# Altium schematic symbol library UOMP_microcontrollers.SchLib: 5 symbols
Pins are listed as number, name and electrical type; pins without a type are passive.

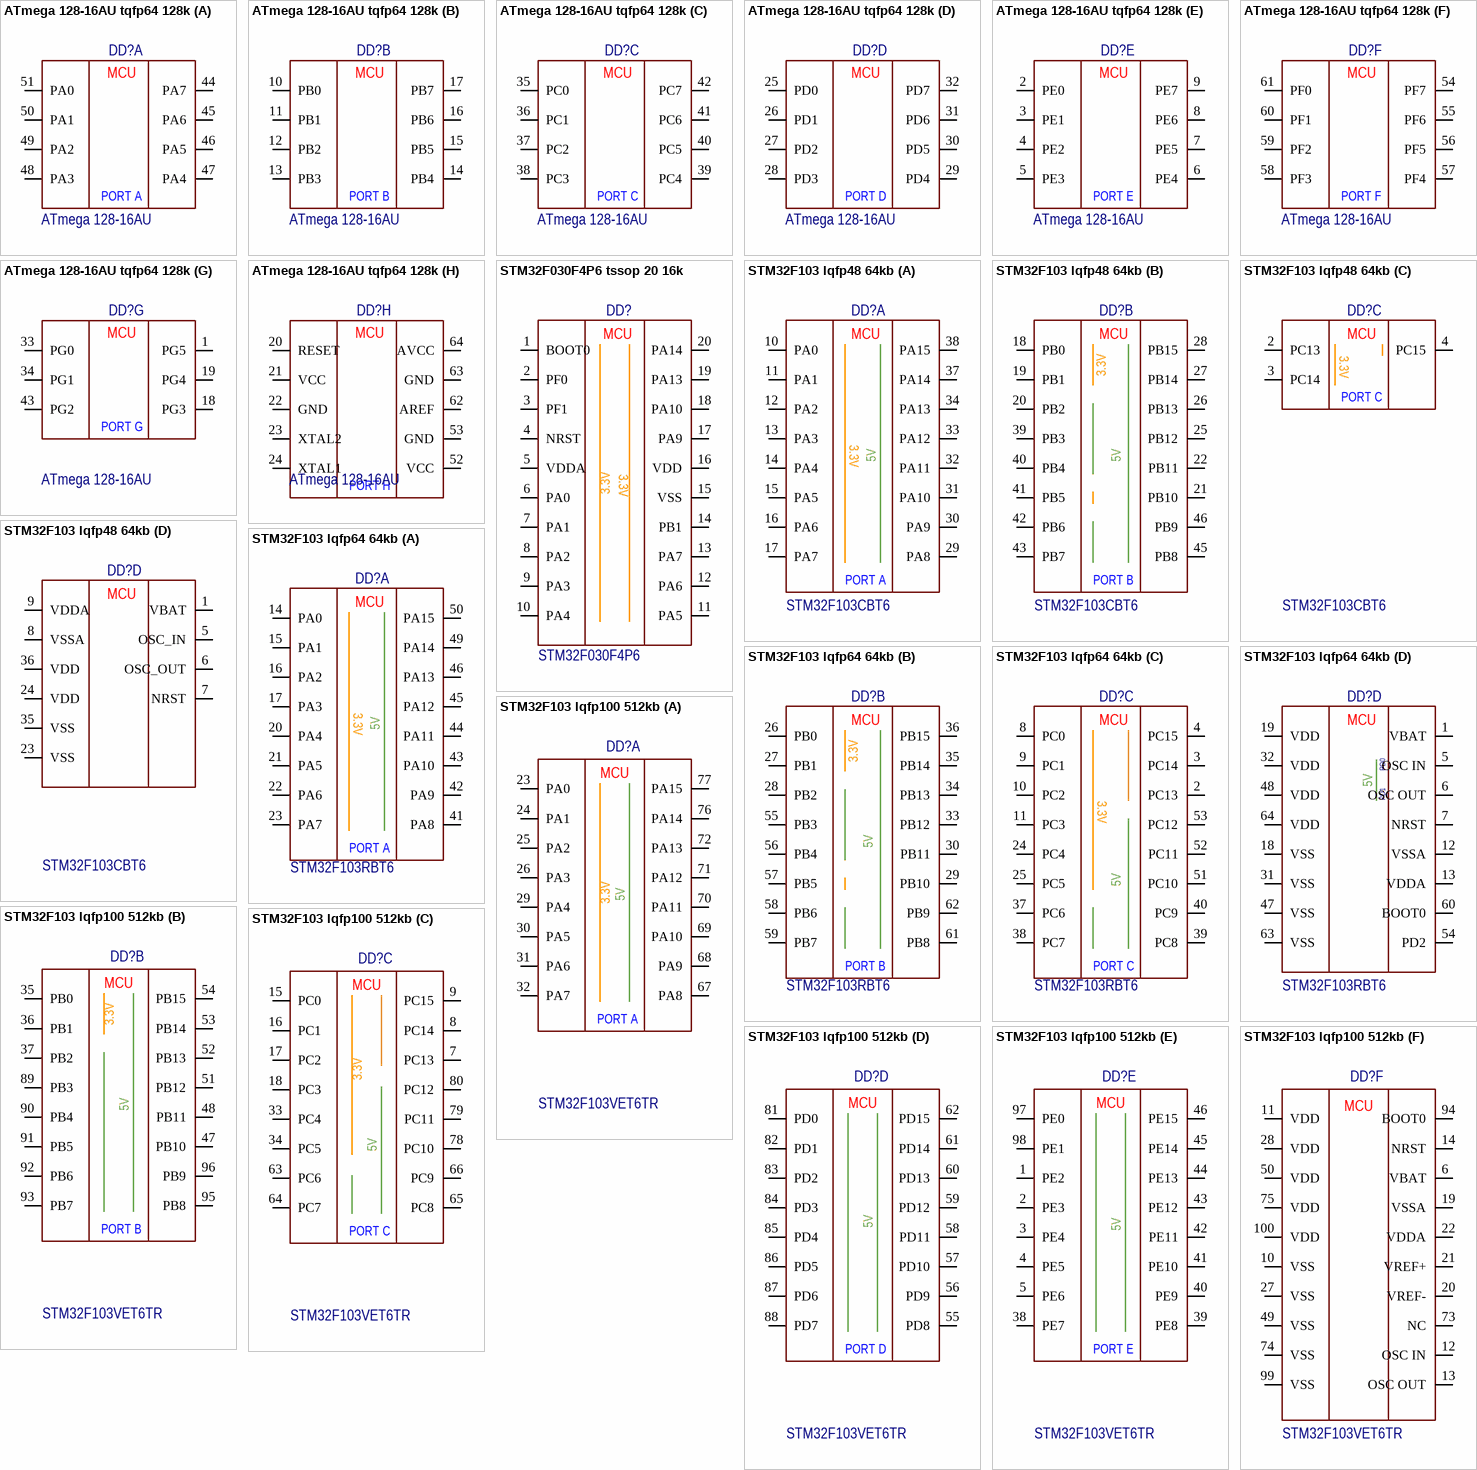
[diagram p0: symbols ATmega 128-16AU tqfp64 128k to STM32F103 lqfp100 512kb]

## ATmega 128-16AU tqfp64 128k
designator DD?, comment ATmega 128-16AU
Code: 6330000531; Name: Микросхема ATmega 128-16AU, Atmel
footprint MC: TQFP64 (14x14)
part A pins: 44 PA7, 45 PA6, 46 PA5, 47 PA4, 48 PA3, 49 PA2, 50 PA1, 51 PA0
part B pins: 10 PB0, 11 PB1, 12 PB2, 13 PB3, 14 PB4, 15 PB5, 16 PB6, 17 PB7
part C pins: 35 PC0, 36 PC1, 37 PC2, 38 PC3, 39 PC4, 40 PC5, 41 PC6, 42 PC7
part D pins: 25 PD0, 26 PD1, 27 PD2, 28 PD3, 29 PD4, 30 PD5, 31 PD6, 32 PD7
part E pins: 2 PE0, 3 PE1, 4 PE2, 5 PE3, 6 PE4, 7 PE5, 8 PE6, 9 PE7
part F pins: 54 PF7, 55 PF6, 56 PF5, 57 PF4, 58 PF3, 59 PF2, 60 PF1, 61 PF0
part G pins: 1 PG5, 18 PG3, 19 PG4, 33 PG0, 34 PG1, 43 PG2
part H pins: 20 RESET, 21 VCC, 22 GND, 23 XTAL2, 24 XTAL1, 52 VCC, 53 GND, 62 AREF, 63 GND, 64 AVCC
part A text: MCU; PORT A
part B text: MCU; PORT B
part C text: MCU; PORT C
part D text: MCU; PORT D
part E text: MCU; PORT E
part F text: MCU; PORT F
part G text: MCU; PORT G
part H text: MCU; PORT H

## STM32F030F4P6 tssop 20 16k
designator DD?, comment STM32F030F4P6
Code: 6339108641; Name: Микросхема STM32F030F4P6TR, ST
footprint MC: TSSOP 20
pins: 1 BOOT0, 2 PF0, 3 PF1, 4 NRST, 5 VDDA, 6 PA0, 7 PA1, 8 PA2, 9 PA3, 10 PA4, 11 PA5, 12 PA6, 13 PA7, 14 PB1, 15 VSS, 16 VDD, 17 PA9, 18 PA10, 19 PA13, 20 PA14
text: MCU; 3.3V

## STM32F103 lqfp48 64kb
designator DD?, comment STM32F103CBT6
Code: 6335530807; Name: Микросхема STM32F103CBT6, STMicroelectronics
footprint MC: LQFP-48
part A pins: 10 PA0, 11 PA1, 12 PA2, 13 PA3, 14 PA4, 15 PA5, 16 PA6, 17 PA7, 29 PA8, 30 PA9, 31 PA10, 32 PA11, 33 PA12, 34 PA13, 37 PA14, 38 PA15
part B pins: 18 PB0, 19 PB1, 20 PB2, 21 PB10, 22 PB11, 25 PB12, 26 PB13, 27 PB14, 28 PB15, 39 PB3, 40 PB4, 41 PB5, 42 PB6, 43 PB7, 45 PB8, 46 PB9
part C pins: 2 PC13, 3 PC14, 4 PC15
part D pins: 1 VBAT, 5 OSC_IN, 6 OSC_OUT, 7 NRST, 8 VSSA, 9 VDDA, 23 VSS, 24 VDD, 35 VSS, 36 VDD
part A text: MCU; 3.3V; 5V; PORT A
part B text: MCU; 3.3V; 5V; PORT B
part C text: MCU; 3.3V; PORT C
part D text: MCU

## STM32F103 lqfp64 64kb
designator DD?, comment STM32F103RBT6
Code: 6335530806; Name: Микросхема STM32F103RBT6
footprint MC: LQFP-64
part A pins: 14 PA0, 15 PA1, 16 PA2, 17 PA3, 20 PA4, 21 PA5, 22 PA6, 23 PA7, 41 PA8, 42 PA9, 43 PA10, 44 PA11, 45 PA12, 46 PA13, 49 PA14, 50 PA15
part B pins: 26 PB0, 27 PB1, 28 PB2, 29 PB10, 30 PB11, 33 PB12, 34 PB13, 35 PB14, 36 PB15, 55 PB3, 56 PB4, 57 PB5, 58 PB6, 59 PB7, 61 PB8, 62 PB9
part C pins: 2 PC13, 3 PC14, 4 PC15, 8 PC0, 9 PC1, 10 PC2, 11 PC3, 24 PC4, 25 PC5, 37 PC6, 38 PC7, 39 PC8, 40 PC9, 51 PC10, 52 PC11, 53 PC12
part D pins: 1 VBAT, 5 OSC IN, 6 OSC OUT, 7 NRST, 12 VSSA, 13 VDDA, 18 VSS, 19 VDD, 31 VSS, 32 VDD, 47 VSS, 48 VDD, 54 PD2, 60 BOOT0, 63 VSS, 64 VDD
part A text: MCU; 3.3V; 5V; PORT A
part B text: MCU; 3.3V; 5V; PORT B
part C text: MCU; 3.3V; 5V; PORT C
part D text: MCU; PD0; 5V; PD1

## STM32F103 lqfp100 512kb
designator DD?, comment STM32F103VET6TR
Name: Микросхема STM32F103VET6TR; Code: 6330007531
footprint MC: LQFP-100
part A pins: 23 PA0, 24 PA1, 25 PA2, 26 PA3, 29 PA4, 30 PA5, 31 PA6, 32 PA7, 67 PA8, 68 PA9, 69 PA10, 70 PA11, 71 PA12, 72 PA13, 76 PA14, 77 PA15
part B pins: 35 PB0, 36 PB1, 37 PB2, 47 PB10, 48 PB11, 51 PB12, 52 PB13, 53 PB14, 54 PB15, 89 PB3, 90 PB4, 91 PB5, 92 PB6, 93 PB7, 95 PB8, 96 PB9
part C pins: 7 PC13, 8 PC14, 9 PC15, 15 PC0, 16 PC1, 17 PC2, 18 PC3, 33 PC4, 34 PC5, 63 PC6, 64 PC7, 65 PC8, 66 PC9, 78 PC10, 79 PC11, 80 PC12
part D pins: 55 PD8, 56 PD9, 57 PD10, 58 PD11, 59 PD12, 60 PD13, 61 PD14, 62 PD15, 81 PD0, 82 PD1, 83 PD2, 84 PD3, 85 PD4, 86 PD5, 87 PD6, 88 PD7
part E pins: 1 PE2, 2 PE3, 3 PE4, 4 PE5, 5 PE6, 38 PE7, 39 PE8, 40 PE9, 41 PE10, 42 PE11, 43 PE12, 44 PE13, 45 PE14, 46 PE15, 97 PE0, 98 PE1
part F pins: 6 VBAT, 10 VSS, 11 VDD, 12 OSC IN, 13 OSC OUT, 14 NRST, 19 VSSA, 20 VREF-, 21 VREF+, 22 VDDA, 27 VSS, 28 VDD, 49 VSS, 50 VDD, 73 NC, 74 VSS, 75 VDD, 94 BOOT0, 99 VSS, 100 VDD
part A text: MCU; 3.3V; 5V; PORT A
part B text: MCU; 3.3V; 5V; PORT B
part C text: MCU; 3.3V; 5V; PORT C
part D text: MCU; 5V; PORT D
part E text: MCU; 5V; PORT E
part F text: MCU